# Altium integrated library Linear Technology PMIC-Switching Reg LTC1174-LTC3901.IntLib: 2647 symbols (part 280 of 310)
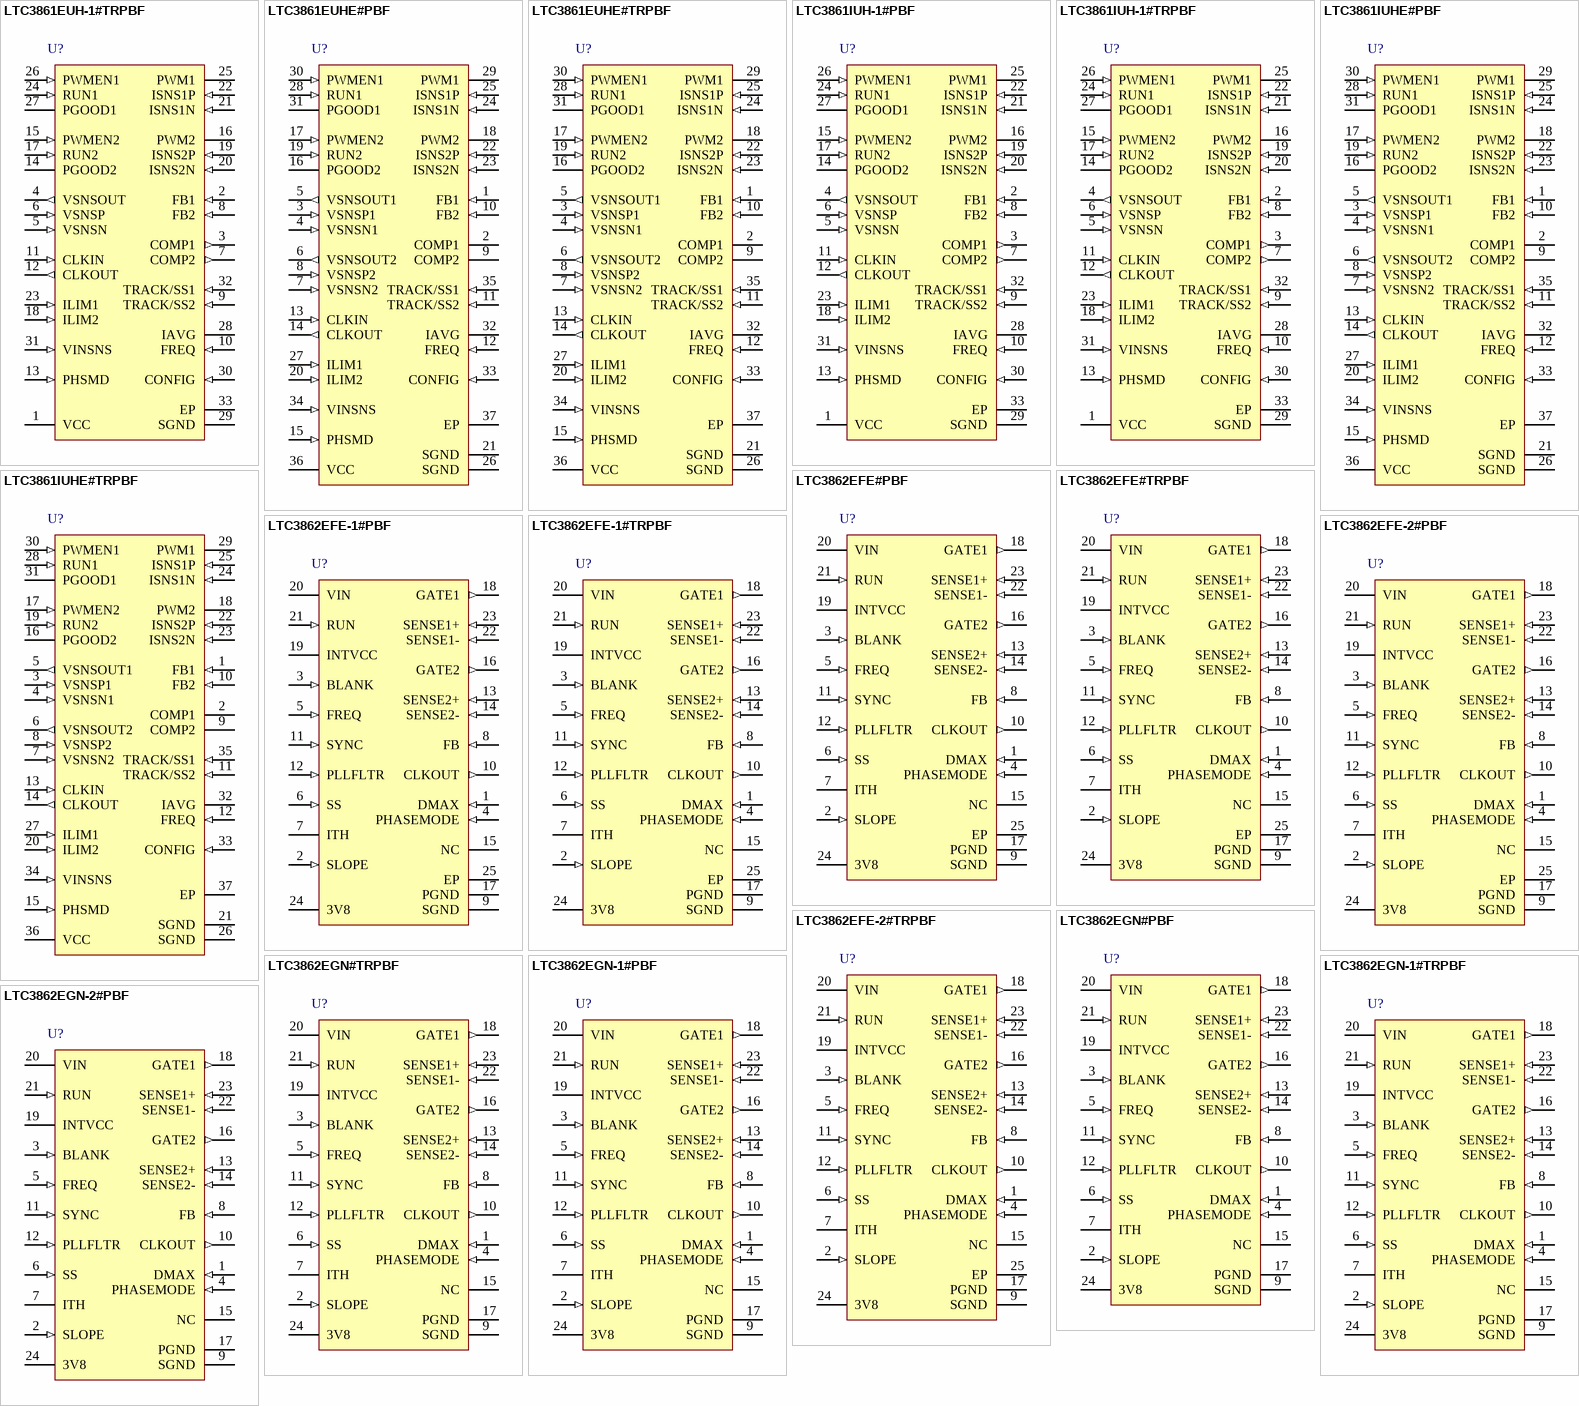
[diagram p284: symbols LTC3861EUH-1#TRPBF to LTC3862EGN-2#PBF]

## LTC3861EUH-1#TRPBF
designator U?
Dual, Multiphase Step-Down Voltage Mode DC/DC Controller with Accurate Current Sharing, 32-pin QFN (UH-32), -40 to 125 degC, Pb-Free, Tape and Reel; Manufacturer: Linear Technology; PartNumber: LTC3861EUH-1#TRPBF; Number of Outputs: 2; PackageReference: UH-32; PackageDescription: 32-Pin Plastic QFN, Body 5 x 5 mm, Pitch 0.5 mm; Supplier 1: Digi-Key; Supplier Part Number 1: LTC3861EUH-1#TRPBF-ND; RoHS: TRUE; Code_JEDEC: MO-220
footprint LT-UH-32_N (QFN, 32-Leads, Body 5.1x5.1mm, Pitch 0.5mm, Thermal Pad 3.45X3.45mm, IPC Medium Density)
footprint LT-UH-32_L (QFN, 32-Leads, Body 5.1x5.1mm, Pitch 0.5mm, Thermal Pad 3.45X3.45mm, IPC High Density)
footprint LT-UH-32_M (QFN, 32-Leads, Body 5.1x5.1mm, Pitch 0.5mm, Thermal Pad 3.45X3.45mm, IPC Low Density)
pins: 1 VCC (power) "Chip Supply Voltage. Bypass this pin to GND with a capacitor (0.1uF to 1uF ceramic) in close proximity to the chip.", 2 FB1 (in) "Error Amplifier Inverting Input. FB1 or FB2 can be connected to VSNSOUT via a resistor divider for remote VOUT sensing. The bottom of the divider should be connected to the SGND pin of the IC. The other FB, when used, is (See Datasheet)", 3 COMP1 (out) "Error Amplifier Outputs. PWM duty cycle increases with this control voltage. The error amplifiers in the LTC3861-1 are true operational amplifiers with low output impedance. As a result, the outputs of two active error (See Datasheet)", 4 VSNSOUT (out) "Differential Amplifier Output. Connect to FB1 or FB2 with a resistive divider and compensation network for remote VOUT sensing.", 5 VSNSN (in) "Differential Sense Amplifier Inverting Input. Connect this pin to sense ground at the output load.", 6 VSNSP (in) "Differential Sense Amplifier Noninverting Input. Connect this pin to VOUT at the output load.", 7 COMP2 (out) "Error Amplifier Outputs. PWM duty cycle increases with this control voltage. The error amplifiers in the LTC3861-1 are true operational amplifiers with low output impedance. As a result, the outputs of two active error (See Datasheet)", 8 FB2 (in) "Error Amplifier Inverting Input. FB1 or FB2 can be connected to VSNSOUT via a resistor divider for remote VOUT sensing. The bottom of the divider should be connected to the SGND pin of the IC. The other FB, when used, is (See Datasheet)", 9 TRACK/SS2 (in) "Combined Soft-Start and Tracking Inputs. For soft-start operation, connecting a capacitor from this pin to ground will control the voltage ramp at the output of the power supply. An internal 2.5uA current source will charge (See Datasheet)", 10 FREQ (in) "Frequency Set/Select Pin. This pin sources 20uA current. If CLKIN is high or floating, then a resistor between this pin and SGND sets the switching frequency. If CLKIN is low, the logic state of this pin selects an internal (See Datasheet)", 11 CLKIN (in) "External Clock Synchronization Input. Applying an external clock between 250kHz to 2.25MHz will cause the switching frequency to synchronize to the clock. CLKIN is pulled high to VCC by a 50k internal resistor. The rising (See Datasheet)", 12 CLKOUT (out) "Digital Output Used for Daisychaining Multiple LTC3861-1 ICs in Multiphase Systems. The PHSMD pin voltage controls the relationship between CH1 and CH2 as well as between CH1 and CLKOUT. When both RUN pins are driven low, (See Datasheet)", 13 PHSMD (in) "Phase Mode Pin. The PHSMD pin voltage programs the phase relationship between CH1 and CH2 rising PWM signals, as well as the phase relationship between CH1 PWM signal and CLKOUT. Floating this pin or connecting it to either (See Datasheet)", 14 PGOOD2 (oc) "Power Good Indicator Output for Each Channel. Open-drain logic out that is pulled to SGND when either channel output exceeds a +/-10% regulation window, after the internal 30us power bad mask timer expires.", 15 PWMEN2 (in) "Enable Pin for Non-Three-State compatible drivers. This pin has an internal open-drain pull-up to VCC. An external resistor to SGND is required. This pin is low when the corresponding PWM pin is high impedance.", 16 PWM2 (hiz) "(Top) Gate Signal Output. This signal goes to the PWM or top gate input of the external gate driver or integrated driver MOSFET. This is a three-state compatible output.", 17 RUN2 (in) "Run Control Inputs. A voltage above 2.25V on either pin turns on the IC. However, forcing either of these pins below 2V causes the IC to shut down that particular channel. There are 1.5uA pull-up currents for these pins.", 18 ILIM2 (in) "Current Comparator Sense Voltage Limit Selection Pin. Connect a resistor from this pin to SGND. This pin sources 20uA. The resultant voltage sets the threshold for overcurrent protection.", 19 ISNS2P (in) "Current Sense Amplifier (+) Input. The (+) input to the current sense amplifier is normally connected to the midpoint of the inductor’s parallel RC sense circuit or to the node between the inductor and sense resistor i(See Datasheet)", 20 ISNS2N (in) "Current Sense Amplifier (-) Input. The (-) input to the current amplifier is normally connected to the respective VOUT at the inductor.", 21 ISNS1N (in) "Current Sense Amplifier (-) Input. The (-) input to the current amplifier is normally connected to the respective VOUT at the inductor.", 22 ISNS1P (in) "Current Sense Amplifier (+) Input. The (+) input to the current sense amplifier is normally connected to the midpoint of the inductor’s parallel RC sense circuit or to the node between the inductor and sense resistor i(See Datasheet)", 23 ILIM1 (in) "Current Comparator Sense Voltage Limit Selection Pin. Connect a resistor from this pin to SGND. This pin sources 20uA. The resultant voltage sets the threshold for overcurrent protection.", 24 RUN1 (in) "Run Control Inputs. A voltage above 2.25V on either pin turns on the IC. However, forcing either of these pins below 2V causes the IC to shut down that particular channel. There are 1.5uA pull-up currents for these pins.", 25 PWM1 (hiz) "(Top) Gate Signal Output. This signal goes to the PWM or top gate input of the external gate driver or integrated driver MOSFET. This is a three-state compatible output.", 26 PWMEN1 (in) "Enable Pin for Non-Three-State compatible drivers. This pin has an internal open-drain pull-up to VCC. An external resistor to SGND is required. This pin is low when the corresponding PWM pin is high impedance.", 27 PGOOD1 (oc) "Power Good Indicator Output for Each Channel. Open-drain logic out that is pulled to SGND when either channel output exceeds a +/-10% regulation window, after the internal 30us power bad mask timer expires.", 28 IAVG "Average Current Output Pin. A capacitor tied to ground from this pin stores a voltage proportional to the instantaneous average current of the master when multiple outputs are paralleled together in a master-slave (See Datasheet)", 29 SGND (power) "Signal Ground. Pins 29 and 33 are electrically connected internally. The exposed pad must be soldered to the PCB ground for rated thermal performance. All soft-start, small-signal and compensation components should return to (See Datasheet)", 30 CONFIG (in) "Line Feedforward Configuration Pin. This pin allows the user to configure the multiplier to achieve accurate modulator gain over varying VIN and switching frequencies. This pin can be connected to VCC or SGND. An internal (See Datasheet)", 31 VINSNS (in) "VIN Sense Pin. Connects to the VIN power supply to provide line feedforward compensation. A change in VIN immediately modulates the input to the PWM comparator and changes the pulse width in an inversely proportional manner, (See Datasheet)", 32 TRACK/SS1 (in) "Combined Soft-Start and Tracking Inputs. For soft-start operation, connecting a capacitor from this pin to ground will control the voltage ramp at the output of the power supply. An internal 2.5uA current source will charge (See Datasheet)", 33 EP (power) "Signal Ground. Pins 29 and 33 are electrically connected internally. The exposed pad must be soldered to the PCB ground for rated thermal performance. All soft-start, small-signal and compensation components should return to (See Datasheet)"

## LTC3861EUHE#PBF
designator U?
Dual, Multiphase Step-Down Voltage Mode DC/DC Controller with Accurate Current Sharing, 36-pin QFN (UHE-36), -40 to 125 degC, Pb-Free; Manufacturer: Linear Technology; PartNumber: LTC3861EUHE#PBF; Number of Outputs: 1; PackageReference: UHE-36; PackageDescription: 36-Pin Plastic QFN, Body 5 x 6 mm, Pitch 0.5 mm; Supplier 1: Digi-Key; Supplier Part Number 1: LTC3861EUHE#PBF-ND; RoHS: TRUE
footprint LT-UHE-36-4600X3600TP_N (QFN, 36-Leads, Body 6.1x5.1mm, Pitch 0.5mm, Thermal Pad 4.6x3.6mm, IPC Medium Density)
footprint LT-UHE-36-4600X3600TP_L (QFN, 36-Leads, Body 6.1x5.1mm, Pitch 0.5mm, Thermal Pad 4.6x3.6mm, IPC High Density)
footprint LT-UHE-36-4600X3600TP_M (QFN, 36-Leads, Body 6.1x5.1mm, Pitch 0.5mm, Thermal Pad 4.6x3.6mm, IPC Low Density)
pins: 1 FB1 (in) "Error Amplifier Inverting Input. Connect to VSNSOUT1, VNSOUT2 with a compensation network for remote VOUT sensing. Connecting the FB to VCC disables the differential and error amplifiers of the respective channel, and will (See Datasheet)", 2 COMP1 "Error Amplifier Outputs. PWM duty cycle increases with this control voltage. The error amplifiers in the LTC3861 are true operational amplifiers with low output impedance. As a result, the outputs of two active error (See Datasheet)", 3 VSNSP1 (in) "Differential Sense Amplifier Noninverting Input. Connect this pin to the midpoint of the feedback resistive divider between the positive and negative output capacitor terminals.", 4 VSNSN1 (in) "Differential Sense Amplifier Inverting Input. Connect this pin to sense ground at the output load.", 5 VSNSOUT1 (out) "Differential Amplifier Output. Connect to FB1, FB2 with a compensation network for remote VOUT sensing.", 6 VSNSOUT2 (out) "Differential Amplifier Output. Connect to FB1, FB2 with a compensation network for remote VOUT sensing.", 7 VSNSN2 (in) "Differential Sense Amplifier Inverting Input. Connect this pin to sense ground at the output load.", 8 VSNSP2 (in) "Differential Sense Amplifier Noninverting Input. Connect this pin to the midpoint of the feedback resistive divider between the positive and negative output capacitor terminals.", 9 COMP2 "Error Amplifier Outputs. PWM duty cycle increases with this control voltage. The error amplifiers in the LTC3861 are true operational amplifiers with low output impedance. As a result, the outputs of two active error (See Datasheet)", 10 FB2 (in) "Error Amplifier Inverting Input. Connect to VSNSOUT1, VNSOUT2 with a compensation network for remote VOUT sensing. Connecting the FB to VCC disables the differential and error amplifiers of the respective channel, and will (See Datasheet)", 11 TRACK/SS2 (in) "Combined Soft-Start and Tracking Inputs. For soft-start operation, connecting a capacitor from this pin to ground will control the voltage ramp at the output of the power supply. An internal 2.5uA current source will charge (See Datasheet)", 12 FREQ (in) "Frequency Set/Select Pin. This pin sources 20uA current. If CLKIN is high or floating, then a resistor between this pin and SGND sets the switching frequency. If CLKIN is low, the logic state of this pin selects an internal (See Datasheet)", 13 CLKIN (in) "External Clock Synchronization Input. Applying an external clock between 250kHz to 2.25MHz will cause the switching frequency to synchronize to the clock. CLKIN is pulled high to VCC by a 50k internal resistor. The rising (See Datasheet)", 14 CLKOUT (out) "Digital Output Used for Daisychaining  Multiple LTC3861 ICs in Multiphase Systems. The PHSMD pin voltage controls the relationship between CH1 andCH2  as well as between CH1 and CLKOUT. When both RUN pins are driven low, the (See Datasheet)", 15 PHSMD (in) "Phase Mode Pin. The PHSMD pin voltage programs the phase relationship between CH1 and CH2 rising PWM signals, as well as the phase relationship between CH1 PWM signal and CLKOUT. Floating this pin or connecting it to either (See Datasheet)", 16 PGOOD2 (oc) "Power Good Indicator Output for Each Channel. Open-drain logic out that is pulled to SGND when either channel output exceeds a +/-10% regulation window, after the internal 30us power bad mask timer expires.", 17 PWMEN2 (in) "Enable Pin for Non-Three-State compatible drivers. This pin has an internal open-drain pull-up to VCC. An external resistor to SGND is required. This pin is low when the corresponding PWM pin is high impedance.", 18 PWM2 (hiz) "(Top) Gate Signal Output. This signal goes to the PWM or top gate input of the external gate driver or integrated driver MOSFET. This is a three-state compatible output.", 19 RUN2 (in) "Run Control Inputs. A voltage above 2.25V on either pin turns on the IC. However, forcing either of these pins below 2V causes the IC to shut down that particular channel. There are 1.5uA pull-up currents for these pins.", 20 ILIM2 (in) "Current Comparator Sense Voltage Limit Selection Pin. Connect a resistor from this pin to SGND. This pin sources 20uA. The resultant voltage sets the threshold for overcurrent protection.", 21 SGND (power) "Signal Ground. Pins 21, 26, and 37 are electrically connected internally.  The exposed pad must be soldered to the PCB ground for rated thermal performance. All soft-start, small-signal and compensation components should (See Datasheet)", 22 ISNS2P (in) "Current Sense Amplifier (+) Input. The (+) input to the current sense amplifier is normally connected to the midpoint of the inductor’s  parallel RC sense circuit or to the node between the inductor and sense resistor i(See Datasheet)", 23 ISNS2N (in) "Current Sense Amplifier (-) Input. The (-) input to the current amplifier is normally connected to the respective VOUT at the inductor.", 24 ISNS1N (in) "Current Sense Amplifier (-) Input. The (-) input to the current amplifier is normally connected to the respective VOUT at the inductor.", 25 ISNS1P (in) "Current Sense Amplifier (+) Input. The (+) input to the current sense amplifier is normally connected to the midpoint of the inductor’s  parallel RC sense circuit or to the node between the inductor and sense resistor i(See Datasheet)", 26 SGND (power) "Signal Ground. Pins 21, 26, and 37 are electrically connected internally.  The exposed pad must be soldered to the PCB ground for rated thermal performance. All soft-start, small-signal and compensation components should (See Datasheet)", 27 ILIM1 (in) "Current Comparator Sense Voltage Limit Selection Pin. Connect a resistor from this pin to SGND. This pin sources 20uA. The resultant voltage sets the threshold for overcurrent protection.", 28 RUN1 (in) "Run Control Inputs. A voltage above 2.25V on either pin turns on the IC. However, forcing either of these pins below 2V causes the IC to shut down that particular channel. There are 1.5uA pull-up currents for these pins.", 29 PWM1 (hiz) "(Top) Gate Signal Output. This signal goes to the PWM or top gate input of the external gate driver or integrated driver MOSFET. This is a three-state compatible output.", 30 PWMEN1 (in) "Enable Pin for Non-Three-State compatible drivers. This pin has an internal open-drain pull-up to VCC. An external resistor to SGND is required. This pin is low when the corresponding PWM pin is high impedance.", 31 PGOOD1 (oc) "Power Good Indicator Output for Each Channel. Open-drain logic out that is pulled to SGND when either channel output exceeds a +/-10% regulation window, after the internal 30us power bad mask timer expires.", 32 IAVG "Average Current Output Pin. A capacitor tied to ground from this pin stores a voltage proportional to the instantaneous average current of the master when multiple outputs are paralleled together in a master-slave (See Datasheet)", 33 CONFIG (in) "Line Feedforward Configuration Pin.  This pin allows the user to configure the multiplier to  achieve accurate modulator gain over varying VIN and  switching frequencies. This pin can be connected to VCC or SGND. An internal (See Datasheet)", 34 VINSNS (in) "VIN Sense Pin. Connects to the VIN power supply to provide line feedforward compensation. A change in VIN immediately modulates the input to the PWM comparator and changes the pulse width in an inversely proportionalmanner, (See Datasheet)", 35 TRACK/SS1 (in) "Combined Soft-Start and Tracking Inputs. For soft-start operation, connecting a capacitor from this pin to ground will control the voltage ramp at the output of the power supply. An internal 2.5uA current source will charge (See Datasheet)", 36 VCC (power) "Chip Supply Voltage. Bypass this pin to GND with a capacitor (0.1uF to 1uF ceramic) in close proximity to the chip.", 37 EP (power) "Signal Ground. Pins 21, 26, and 37 are electrically connected internally.  The exposed pad must be soldered to the PCB ground for rated thermal performance. All soft-start, small-signal and compensation components should (See Datasheet)"

## LTC3861EUHE#TRPBF
designator U?
Dual, Multiphase Step-Down Voltage Mode DC/DC Controller with Accurate Current Sharing, 36-pin QFN (UHE-36), -40 to 125 degC, Pb-Free, Tape and Reel; Manufacturer: Linear Technology; PartNumber: LTC3861EUHE#TRPBF; Number of Outputs: 1; PackageReference: UHE-36; PackageDescription: 36-Pin Plastic QFN, Body 5 x 6 mm, Pitch 0.5 mm; Supplier 1: Digi-Key; Supplier Part Number 1: LTC3861EUHE#TRPBF-ND; RoHS: TRUE
footprint LT-UHE-36-4600X3600TP_N (QFN, 36-Leads, Body 6.1x5.1mm, Pitch 0.5mm, Thermal Pad 4.6x3.6mm, IPC Medium Density)
footprint LT-UHE-36-4600X3600TP_L (QFN, 36-Leads, Body 6.1x5.1mm, Pitch 0.5mm, Thermal Pad 4.6x3.6mm, IPC High Density)
footprint LT-UHE-36-4600X3600TP_M (QFN, 36-Leads, Body 6.1x5.1mm, Pitch 0.5mm, Thermal Pad 4.6x3.6mm, IPC Low Density)
pins: 1 FB1 (in) "Error Amplifier Inverting Input. Connect to VSNSOUT1, VNSOUT2 with a compensation network for remote VOUT sensing. Connecting the FB to VCC disables the differential and error amplifiers of the respective channel, and will (See Datasheet)", 2 COMP1 "Error Amplifier Outputs. PWM duty cycle increases with this control voltage. The error amplifiers in the LTC3861 are true operational amplifiers with low output impedance. As a result, the outputs of two active error (See Datasheet)", 3 VSNSP1 (in) "Differential Sense Amplifier Noninverting Input. Connect this pin to the midpoint of the feedback resistive divider between the positive and negative output capacitor terminals.", 4 VSNSN1 (in) "Differential Sense Amplifier Inverting Input. Connect this pin to sense ground at the output load.", 5 VSNSOUT1 (out) "Differential Amplifier Output. Connect to FB1, FB2 with a compensation network for remote VOUT sensing.", 6 VSNSOUT2 (out) "Differential Amplifier Output. Connect to FB1, FB2 with a compensation network for remote VOUT sensing.", 7 VSNSN2 (in) "Differential Sense Amplifier Inverting Input. Connect this pin to sense ground at the output load.", 8 VSNSP2 (in) "Differential Sense Amplifier Noninverting Input. Connect this pin to the midpoint of the feedback resistive divider between the positive and negative output capacitor terminals.", 9 COMP2 "Error Amplifier Outputs. PWM duty cycle increases with this control voltage. The error amplifiers in the LTC3861 are true operational amplifiers with low output impedance. As a result, the outputs of two active error (See Datasheet)", 10 FB2 (in) "Error Amplifier Inverting Input. Connect to VSNSOUT1, VNSOUT2 with a compensation network for remote VOUT sensing. Connecting the FB to VCC disables the differential and error amplifiers of the respective channel, and will (See Datasheet)", 11 TRACK/SS2 (in) "Combined Soft-Start and Tracking Inputs. For soft-start operation, connecting a capacitor from this pin to ground will control the voltage ramp at the output of the power supply. An internal 2.5uA current source will charge (See Datasheet)", 12 FREQ (in) "Frequency Set/Select Pin. This pin sources 20uA current. If CLKIN is high or floating, then a resistor between this pin and SGND sets the switching frequency. If CLKIN is low, the logic state of this pin selects an internal (See Datasheet)", 13 CLKIN (in) "External Clock Synchronization Input. Applying an external clock between 250kHz to 2.25MHz will cause the switching frequency to synchronize to the clock. CLKIN is pulled high to VCC by a 50k internal resistor. The rising (See Datasheet)", 14 CLKOUT (out) "Digital Output Used for Daisychaining  Multiple LTC3861 ICs in Multiphase Systems. The PHSMD pin voltage controls the relationship between CH1 andCH2  as well as between CH1 and CLKOUT. When both RUN pins are driven low, the (See Datasheet)", 15 PHSMD (in) "Phase Mode Pin. The PHSMD pin voltage programs the phase relationship between CH1 and CH2 rising PWM signals, as well as the phase relationship between CH1 PWM signal and CLKOUT. Floating this pin or connecting it to either (See Datasheet)", 16 PGOOD2 (oc) "Power Good Indicator Output for Each Channel. Open-drain logic out that is pulled to SGND when either channel output exceeds a +/-10% regulation window, after the internal 30us power bad mask timer expires.", 17 PWMEN2 (in) "Enable Pin for Non-Three-State compatible drivers. This pin has an internal open-drain pull-up to VCC. An external resistor to SGND is required. This pin is low when the corresponding PWM pin is high impedance.", 18 PWM2 (hiz) "(Top) Gate Signal Output. This signal goes to the PWM or top gate input of the external gate driver or integrated driver MOSFET. This is a three-state compatible output.", 19 RUN2 (in) "Run Control Inputs. A voltage above 2.25V on either pin turns on the IC. However, forcing either of these pins below 2V causes the IC to shut down that particular channel. There are 1.5uA pull-up currents for these pins.", 20 ILIM2 (in) "Current Comparator Sense Voltage Limit Selection Pin. Connect a resistor from this pin to SGND. This pin sources 20uA. The resultant voltage sets the threshold for overcurrent protection.", 21 SGND (power) "Signal Ground. Pins 21, 26, and 37 are electrically connected internally.  The exposed pad must be soldered to the PCB ground for rated thermal performance. All soft-start, small-signal and compensation components should (See Datasheet)", 22 ISNS2P (in) "Current Sense Amplifier (+) Input. The (+) input to the current sense amplifier is normally connected to the midpoint of the inductor’s  parallel RC sense circuit or to the node between the inductor and sense resistor i(See Datasheet)", 23 ISNS2N (in) "Current Sense Amplifier (-) Input. The (-) input to the current amplifier is normally connected to the respective VOUT at the inductor.", 24 ISNS1N (in) "Current Sense Amplifier (-) Input. The (-) input to the current amplifier is normally connected to the respective VOUT at the inductor.", 25 ISNS1P (in) "Current Sense Amplifier (+) Input. The (+) input to the current sense amplifier is normally connected to the midpoint of the inductor’s  parallel RC sense circuit or to the node between the inductor and sense resistor i(See Datasheet)", 26 SGND (power) "Signal Ground. Pins 21, 26, and 37 are electrically connected internally.  The exposed pad must be soldered to the PCB ground for rated thermal performance. All soft-start, small-signal and compensation components should (See Datasheet)", 27 ILIM1 (in) "Current Comparator Sense Voltage Limit Selection Pin. Connect a resistor from this pin to SGND. This pin sources 20uA. The resultant voltage sets the threshold for overcurrent protection.", 28 RUN1 (in) "Run Control Inputs. A voltage above 2.25V on either pin turns on the IC. However, forcing either of these pins below 2V causes the IC to shut down that particular channel. There are 1.5uA pull-up currents for these pins.", 29 PWM1 (hiz) "(Top) Gate Signal Output. This signal goes to the PWM or top gate input of the external gate driver or integrated driver MOSFET. This is a three-state compatible output.", 30 PWMEN1 (in) "Enable Pin for Non-Three-State compatible drivers. This pin has an internal open-drain pull-up to VCC. An external resistor to SGND is required. This pin is low when the corresponding PWM pin is high impedance.", 31 PGOOD1 (oc) "Power Good Indicator Output for Each Channel. Open-drain logic out that is pulled to SGND when either channel output exceeds a +/-10% regulation window, after the internal 30us power bad mask timer expires.", 32 IAVG "Average Current Output Pin. A capacitor tied to ground from this pin stores a voltage proportional to the instantaneous average current of the master when multiple outputs are paralleled together in a master-slave (See Datasheet)", 33 CONFIG (in) "Line Feedforward Configuration Pin.  This pin allows the user to configure the multiplier to  achieve accurate modulator gain over varying VIN and  switching frequencies. This pin can be connected to VCC or SGND. An internal (See Datasheet)", 34 VINSNS (in) "VIN Sense Pin. Connects to the VIN power supply to provide line feedforward compensation. A change in VIN immediately modulates the input to the PWM comparator and changes the pulse width in an inversely proportionalmanner, (See Datasheet)", 35 TRACK/SS1 (in) "Combined Soft-Start and Tracking Inputs. For soft-start operation, connecting a capacitor from this pin to ground will control the voltage ramp at the output of the power supply. An internal 2.5uA current source will charge (See Datasheet)", 36 VCC (power) "Chip Supply Voltage. Bypass this pin to GND with a capacitor (0.1uF to 1uF ceramic) in close proximity to the chip.", 37 EP (power) "Signal Ground. Pins 21, 26, and 37 are electrically connected internally.  The exposed pad must be soldered to the PCB ground for rated thermal performance. All soft-start, small-signal and compensation components should (See Datasheet)"

## LTC3861IUH-1#PBF
designator U?
Dual, Multiphase Step-Down Voltage Mode DC/DC Controller with Accurate Current Sharing, 32-pin QFN (UH-32), -40 to 125 degC, Pb-Free; Manufacturer: Linear Technology; PartNumber: LTC3861IUH-1#PBF; Number of Outputs: 2; PackageReference: UH-32; PackageDescription: 32-Pin Plastic QFN, Body 5 x 5 mm, Pitch 0.5 mm; Supplier 1: Digi-Key; Supplier Part Number 1: LTC3861IUH-1#PBF-ND; RoHS: TRUE; Code_JEDEC: MO-220
footprint LT-UH-32_N (QFN, 32-Leads, Body 5.1x5.1mm, Pitch 0.5mm, Thermal Pad 3.45X3.45mm, IPC Medium Density)
footprint LT-UH-32_L (QFN, 32-Leads, Body 5.1x5.1mm, Pitch 0.5mm, Thermal Pad 3.45X3.45mm, IPC High Density)
footprint LT-UH-32_M (QFN, 32-Leads, Body 5.1x5.1mm, Pitch 0.5mm, Thermal Pad 3.45X3.45mm, IPC Low Density)
pins: 1 VCC (power) "Chip Supply Voltage. Bypass this pin to GND with a capacitor (0.1uF to 1uF ceramic) in close proximity to the chip.", 2 FB1 (in) "Error Amplifier Inverting Input. FB1 or FB2 can be connected to VSNSOUT via a resistor divider for remote VOUT sensing. The bottom of the divider should be connected to the SGND pin of the IC. The other FB, when used, is (See Datasheet)", 3 COMP1 (out) "Error Amplifier Outputs. PWM duty cycle increases with this control voltage. The error amplifiers in the LTC3861-1 are true operational amplifiers with low output impedance. As a result, the outputs of two active error (See Datasheet)", 4 VSNSOUT (out) "Differential Amplifier Output. Connect to FB1 or FB2 with a resistive divider and compensation network for remote VOUT sensing.", 5 VSNSN (in) "Differential Sense Amplifier Inverting Input. Connect this pin to sense ground at the output load.", 6 VSNSP (in) "Differential Sense Amplifier Noninverting Input. Connect this pin to VOUT at the output load.", 7 COMP2 (out) "Error Amplifier Outputs. PWM duty cycle increases with this control voltage. The error amplifiers in the LTC3861-1 are true operational amplifiers with low output impedance. As a result, the outputs of two active error (See Datasheet)", 8 FB2 (in) "Error Amplifier Inverting Input. FB1 or FB2 can be connected to VSNSOUT via a resistor divider for remote VOUT sensing. The bottom of the divider should be connected to the SGND pin of the IC. The other FB, when used, is (See Datasheet)", 9 TRACK/SS2 (in) "Combined Soft-Start and Tracking Inputs. For soft-start operation, connecting a capacitor from this pin to ground will control the voltage ramp at the output of the power supply. An internal 2.5uA current source will charge (See Datasheet)", 10 FREQ (in) "Frequency Set/Select Pin. This pin sources 20uA current. If CLKIN is high or floating, then a resistor between this pin and SGND sets the switching frequency. If CLKIN is low, the logic state of this pin selects an internal (See Datasheet)", 11 CLKIN (in) "External Clock Synchronization Input. Applying an external clock between 250kHz to 2.25MHz will cause the switching frequency to synchronize to the clock. CLKIN is pulled high to VCC by a 50k internal resistor. The rising (See Datasheet)", 12 CLKOUT (out) "Digital Output Used for Daisychaining Multiple LTC3861-1 ICs in Multiphase Systems. The PHSMD pin voltage controls the relationship between CH1 and CH2 as well as between CH1 and CLKOUT. When both RUN pins are driven low, (See Datasheet)", 13 PHSMD (in) "Phase Mode Pin. The PHSMD pin voltage programs the phase relationship between CH1 and CH2 rising PWM signals, as well as the phase relationship between CH1 PWM signal and CLKOUT. Floating this pin or connecting it to either (See Datasheet)", 14 PGOOD2 (oc) "Power Good Indicator Output for Each Channel. Open-drain logic out that is pulled to SGND when either channel output exceeds a +/-10% regulation window, after the internal 30us power bad mask timer expires.", 15 PWMEN2 (in) "Enable Pin for Non-Three-State compatible drivers. This pin has an internal open-drain pull-up to VCC. An external resistor to SGND is required. This pin is low when the corresponding PWM pin is high impedance.", 16 PWM2 (hiz) "(Top) Gate Signal Output. This signal goes to the PWM or top gate input of the external gate driver or integrated driver MOSFET. This is a three-state compatible output.", 17 RUN2 (in) "Run Control Inputs. A voltage above 2.25V on either pin turns on the IC. However, forcing either of these pins below 2V causes the IC to shut down that particular channel. There are 1.5uA pull-up currents for these pins.", 18 ILIM2 (in) "Current Comparator Sense Voltage Limit Selection Pin. Connect a resistor from this pin to SGND. This pin sources 20uA. The resultant voltage sets the threshold for overcurrent protection.", 19 ISNS2P (in) "Current Sense Amplifier (+) Input. The (+) input to the current sense amplifier is normally connected to the midpoint of the inductor’s parallel RC sense circuit or to the node between the inductor and sense resistor i(See Datasheet)", 20 ISNS2N (in) "Current Sense Amplifier (-) Input. The (-) input to the current amplifier is normally connected to the respective VOUT at the inductor.", 21 ISNS1N (in) "Current Sense Amplifier (-) Input. The (-) input to the current amplifier is normally connected to the respective VOUT at the inductor.", 22 ISNS1P (in) "Current Sense Amplifier (+) Input. The (+) input to the current sense amplifier is normally connected to the midpoint of the inductor’s parallel RC sense circuit or to the node between the inductor and sense resistor i(See Datasheet)", 23 ILIM1 (in) "Current Comparator Sense Voltage Limit Selection Pin. Connect a resistor from this pin to SGND. This pin sources 20uA. The resultant voltage sets the threshold for overcurrent protection.", 24 RUN1 (in) "Run Control Inputs. A voltage above 2.25V on either pin turns on the IC. However, forcing either of these pins below 2V causes the IC to shut down that particular channel. There are 1.5uA pull-up currents for these pins.", 25 PWM1 (hiz) "(Top) Gate Signal Output. This signal goes to the PWM or top gate input of the external gate driver or integrated driver MOSFET. This is a three-state compatible output.", 26 PWMEN1 (in) "Enable Pin for Non-Three-State compatible drivers. This pin has an internal open-drain pull-up to VCC. An external resistor to SGND is required. This pin is low when the corresponding PWM pin is high impedance.", 27 PGOOD1 (oc) "Power Good Indicator Output for Each Channel. Open-drain logic out that is pulled to SGND when either channel output exceeds a +/-10% regulation window, after the internal 30us power bad mask timer expires.", 28 IAVG "Average Current Output Pin. A capacitor tied to ground from this pin stores a voltage proportional to the instantaneous average current of the master when multiple outputs are paralleled together in a master-slave (See Datasheet)", 29 SGND (power) "Signal Ground. Pins 29 and 33 are electrically connected internally. The exposed pad must be soldered to the PCB ground for rated thermal performance. All soft-start, small-signal and compensation components should return to (See Datasheet)", 30 CONFIG (in) "Line Feedforward Configuration Pin. This pin allows the user to configure the multiplier to achieve accurate modulator gain over varying VIN and switching frequencies. This pin can be connected to VCC or SGND. An internal (See Datasheet)", 31 VINSNS (in) "VIN Sense Pin. Connects to the VIN power supply to provide line feedforward compensation. A change in VIN immediately modulates the input to the PWM comparator and changes the pulse width in an inversely proportional manner, (See Datasheet)", 32 TRACK/SS1 (in) "Combined Soft-Start and Tracking Inputs. For soft-start operation, connecting a capacitor from this pin to ground will control the voltage ramp at the output of the power supply. An internal 2.5uA current source will charge (See Datasheet)", 33 EP (power) "Signal Ground. Pins 29 and 33 are electrically connected internally. The exposed pad must be soldered to the PCB ground for rated thermal performance. All soft-start, small-signal and compensation components should return to (See Datasheet)"

## LTC3861IUH-1#TRPBF
designator U?
Dual, Multiphase Step-Down Voltage Mode DC/DC Controller with Accurate Current Sharing, 32-pin QFN (UH-32), -40 to 125 degC, Pb-Free, Tape and Reel; Manufacturer: Linear Technology; PartNumber: LTC3861IUH-1#TRPBF; Number of Outputs: 2; PackageReference: UH-32; PackageDescription: 32-Pin Plastic QFN, Body 5 x 5 mm, Pitch 0.5 mm; Supplier 1: Digi-Key; Supplier Part Number 1: LTC3861IUH-1#TRPBF-ND; RoHS: TRUE; Code_JEDEC: MO-220
footprint LT-UH-32_N (QFN, 32-Leads, Body 5.1x5.1mm, Pitch 0.5mm, Thermal Pad 3.45X3.45mm, IPC Medium Density)
footprint LT-UH-32_L (QFN, 32-Leads, Body 5.1x5.1mm, Pitch 0.5mm, Thermal Pad 3.45X3.45mm, IPC High Density)
footprint LT-UH-32_M (QFN, 32-Leads, Body 5.1x5.1mm, Pitch 0.5mm, Thermal Pad 3.45X3.45mm, IPC Low Density)
pins: 1 VCC (power) "Chip Supply Voltage. Bypass this pin to GND with a capacitor (0.1uF to 1uF ceramic) in close proximity to the chip.", 2 FB1 (in) "Error Amplifier Inverting Input. FB1 or FB2 can be connected to VSNSOUT via a resistor divider for remote VOUT sensing. The bottom of the divider should be connected to the SGND pin of the IC. The other FB, when used, is (See Datasheet)", 3 COMP1 (out) "Error Amplifier Outputs. PWM duty cycle increases with this control voltage. The error amplifiers in the LTC3861-1 are true operational amplifiers with low output impedance. As a result, the outputs of two active error (See Datasheet)", 4 VSNSOUT (out) "Differential Amplifier Output. Connect to FB1 or FB2 with a resistive divider and compensation network for remote VOUT sensing.", 5 VSNSN (in) "Differential Sense Amplifier Inverting Input. Connect this pin to sense ground at the output load.", 6 VSNSP (in) "Differential Sense Amplifier Noninverting Input. Connect this pin to VOUT at the output load.", 7 COMP2 (out) "Error Amplifier Outputs. PWM duty cycle increases with this control voltage. The error amplifiers in the LTC3861-1 are true operational amplifiers with low output impedance. As a result, the outputs of two active error (See Datasheet)", 8 FB2 (in) "Error Amplifier Inverting Input. FB1 or FB2 can be connected to VSNSOUT via a resistor divider for remote VOUT sensing. The bottom of the divider should be connected to the SGND pin of the IC. The other FB, when used, is (See Datasheet)", 9 TRACK/SS2 (in) "Combined Soft-Start and Tracking Inputs. For soft-start operation, connecting a capacitor from this pin to ground will control the voltage ramp at the output of the power supply. An internal 2.5uA current source will charge (See Datasheet)", 10 FREQ (in) "Frequency Set/Select Pin. This pin sources 20uA current. If CLKIN is high or floating, then a resistor between this pin and SGND sets the switching frequency. If CLKIN is low, the logic state of this pin selects an internal (See Datasheet)", 11 CLKIN (in) "External Clock Synchronization Input. Applying an external clock between 250kHz to 2.25MHz will cause the switching frequency to synchronize to the clock. CLKIN is pulled high to VCC by a 50k internal resistor. The rising (See Datasheet)", 12 CLKOUT (out) "Digital Output Used for Daisychaining Multiple LTC3861-1 ICs in Multiphase Systems. The PHSMD pin voltage controls the relationship between CH1 and CH2 as well as between CH1 and CLKOUT. When both RUN pins are driven low, (See Datasheet)", 13 PHSMD (in) "Phase Mode Pin. The PHSMD pin voltage programs the phase relationship between CH1 and CH2 rising PWM signals, as well as the phase relationship between CH1 PWM signal and CLKOUT. Floating this pin or connecting it to either (See Datasheet)", 14 PGOOD2 (oc) "Power Good Indicator Output for Each Channel. Open-drain logic out that is pulled to SGND when either channel output exceeds a +/-10% regulation window, after the internal 30us power bad mask timer expires.", 15 PWMEN2 (in) "Enable Pin for Non-Three-State compatible drivers. This pin has an internal open-drain pull-up to VCC. An external resistor to SGND is required. This pin is low when the corresponding PWM pin is high impedance.", 16 PWM2 (hiz) "(Top) Gate Signal Output. This signal goes to the PWM or top gate input of the external gate driver or integrated driver MOSFET. This is a three-state compatible output.", 17 RUN2 (in) "Run Control Inputs. A voltage above 2.25V on either pin turns on the IC. However, forcing either of these pins below 2V causes the IC to shut down that particular channel. There are 1.5uA pull-up currents for these pins.", 18 ILIM2 (in) "Current Comparator Sense Voltage Limit Selection Pin. Connect a resistor from this pin to SGND. This pin sources 20uA. The resultant voltage sets the threshold for overcurrent protection.", 19 ISNS2P (in) "Current Sense Amplifier (+) Input. The (+) input to the current sense amplifier is normally connected to the midpoint of the inductor’s parallel RC sense circuit or to the node between the inductor and sense resistor i(See Datasheet)", 20 ISNS2N (in) "Current Sense Amplifier (-) Input. The (-) input to the current amplifier is normally connected to the respective VOUT at the inductor.", 21 ISNS1N (in) "Current Sense Amplifier (-) Input. The (-) input to the current amplifier is normally connected to the respective VOUT at the inductor.", 22 ISNS1P (in) "Current Sense Amplifier (+) Input. The (+) input to the current sense amplifier is normally connected to the midpoint of the inductor’s parallel RC sense circuit or to the node between the inductor and sense resistor i(See Datasheet)", 23 ILIM1 (in) "Current Comparator Sense Voltage Limit Selection Pin. Connect a resistor from this pin to SGND. This pin sources 20uA. The resultant voltage sets the threshold for overcurrent protection.", 24 RUN1 (in) "Run Control Inputs. A voltage above 2.25V on either pin turns on the IC. However, forcing either of these pins below 2V causes the IC to shut down that particular channel. There are 1.5uA pull-up currents for these pins.", 25 PWM1 (hiz) "(Top) Gate Signal Output. This signal goes to the PWM or top gate input of the external gate driver or integrated driver MOSFET. This is a three-state compatible output.", 26 PWMEN1 (in) "Enable Pin for Non-Three-State compatible drivers. This pin has an internal open-drain pull-up to VCC. An external resistor to SGND is required. This pin is low when the corresponding PWM pin is high impedance.", 27 PGOOD1 (oc) "Power Good Indicator Output for Each Channel. Open-drain logic out that is pulled to SGND when either channel output exceeds a +/-10% regulation window, after the internal 30us power bad mask timer expires.", 28 IAVG "Average Current Output Pin. A capacitor tied to ground from this pin stores a voltage proportional to the instantaneous average current of the master when multiple outputs are paralleled together in a master-slave (See Datasheet)", 29 SGND (power) "Signal Ground. Pins 29 and 33 are electrically connected internally. The exposed pad must be soldered to the PCB ground for rated thermal performance. All soft-start, small-signal and compensation components should return to (See Datasheet)", 30 CONFIG (in) "Line Feedforward Configuration Pin. This pin allows the user to configure the multiplier to achieve accurate modulator gain over varying VIN and switching frequencies. This pin can be connected to VCC or SGND. An internal (See Datasheet)", 31 VINSNS (in) "VIN Sense Pin. Connects to the VIN power supply to provide line feedforward compensation. A change in VIN immediately modulates the input to the PWM comparator and changes the pulse width in an inversely proportional manner, (See Datasheet)", 32 TRACK/SS1 (in) "Combined Soft-Start and Tracking Inputs. For soft-start operation, connecting a capacitor from this pin to ground will control the voltage ramp at the output of the power supply. An internal 2.5uA current source will charge (See Datasheet)", 33 EP (power) "Signal Ground. Pins 29 and 33 are electrically connected internally. The exposed pad must be soldered to the PCB ground for rated thermal performance. All soft-start, small-signal and compensation components should return to (See Datasheet)"